# Altium schematic symbol library 5_pin.SchLib: 1 symbol
Pins are listed as number, name and electrical type; pins without a type are passive.

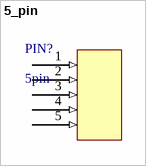
[diagram p0: symbol 5_pin]

## 5_pin
designator PIN?, comment 5pin
footprint PCBComponent_1
pins: 1 (in), 2 (in), 3 (in), 4 (in), 5 (in)